# Altium schematic symbol library MOSFET,N Ch,150V,87A.Schlib: 1 symbol
Pins are listed as number, name and electrical type; pins without a type are passive.

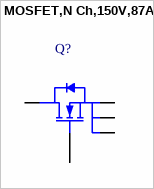
[diagram p0: symbol MOSFET,N Ch,150V,87A]

## MOSFET,N Ch,150V,87A
designator Q?
pins: 1 S, 2 S, 3 S, 4 G, 5 D